# EAGLE library part OLED_128X64 (library OLED_128x64)
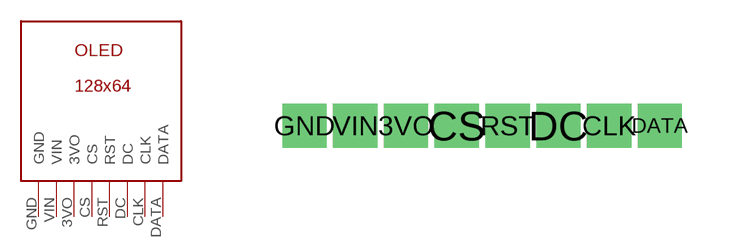
[diagram p0: symbol with the pads of OLED_128X64; footprint OLED_128X64]

Designator prefix -

## OLED_128X64  [OLED_128X64]
3VO  3VO
CLK  CLK
CS  CS
DATA  DATA
DC  DC
GND  GND
RST  RST
VIN  VIN

## Footprint OLED_128X64 (pad centres in mm)
drill 0.6 square: 3VO 2.54,0; CLK 7.62,0; CS 3.81,0; DATA 8.89,0; DC 6.35,0; GND 0,0; RST 5.08,0; VIN 1.27,0